# Altium schematic symbol library RT1206CRE07900RL.SchLib: 1 symbol
Pins are listed as number, name and electrical type; pins without a type are passive.

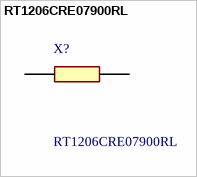
[diagram p0: symbol RT1206CRE07900RL]

## RT1206CRE07900RL
designator X?
900 Ohms +/-0.25% 0.25W, 1/4W Chip Resistor 1206 (3216 Metric) Thin Film; Manufacturer_Name: YAGEO; Geometry.Height: 0.65mm; Mouser Part Number: *; Mouser Price/Stock: *; Manufacturer_Part_Number: RT1206CRE07900RL; Datasheet Link: https://www.yageo.com/upload/media/product/productsearch/datasheet/rchip/PYu-RT_1-to-0.01_RoHS_L_15.pdf
footprint RESC3116X65N
pins: 1, 2